# Altium footprint library LAN Transformer.PcbLib: 2 footprints
Each footprint in its own frame and in the unit in brackets; x right, y up, seen from the top. Pads: shape width x height; smd on the part's side, far side on the other; paste and mask are expansions set on the pad; w line width, h text height; cw(c..) or ccw(c..) is an arc to the next point about the centre after c.
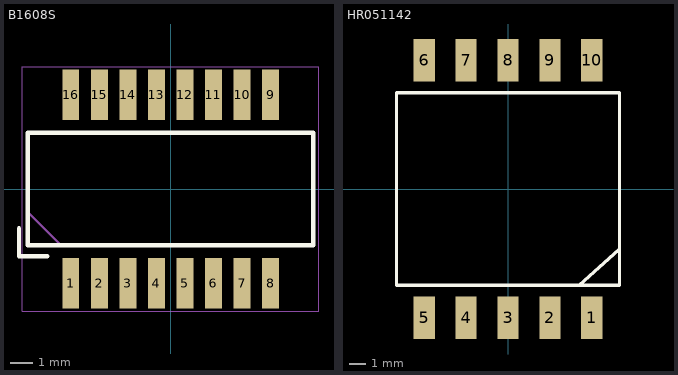
[diagram p0: the footprints below, top view; thin cyan lines are the x and y axes]

## B1608S [mm] "1.5kV 100M 1:1 350uH POE SMD-16P,12.7x7mm Pulse Transformers(LAN)"
pads (16):
  rect 0.75x2.25 smd: 1(-4.445,-4.2) 2(-3.175,-4.2) 3(-1.905,-4.2) 4(-0.635,-4.2) 5(0.635,-4.2) 6(1.905,-4.2) 7(3.175,-4.2) 8(4.445,-4.2) 9(4.445,4.2) 10(3.175,4.2) 11(1.905,4.2) 12(0.635,4.2) 13(-0.635,4.2) 14(-1.905,4.2) 15(-3.175,4.2) 16(-4.445,4.2)
Top Overlay:
  lines w0.2: -6.75,-1.75 -6.75,-3 -5.5,-3 ; -6.35,-2.5 -6.35,2.5 6.35,2.5 6.35,-2.5 -6.35,-2.5
Mechanical 13:
  lines w0.1: -6.35,-1.035 -4.879,-2.506 ; -6.35,-2.5 -6.35,2.5 6.35,2.5 6.35,-2.5 -6.35,-2.5
Mechanical 15:
  lines w0.05: -6.6,-5.45 -6.6,5.45 6.6,5.45 6.6,-5.45 -6.6,-5.45
3D body "H1102NL.stp": height 5.95, standoff 0, extent -6.35,-4.76 6.35,4.76

## HR051142 [mm] "SMD-10P,13.5x13.5mm Power Transformers ROHS"
pads (10):
  rect 1.27x2.54 smd: 1(5,-7.68) 2(2.5,-7.68) 3(0,-7.68) 4(-2.5,-7.68) 5(-5,-7.68) 6(-5,7.68) 7(-2.5,7.68) 8(0,7.68) 9(2.5,7.68) 10(5,7.68)
Top Overlay:
  lines w0.2: 4.25,-5.75 6.625,-3.613 ; -6.65,-5.75 6.65,-5.75 6.65,5.75 -6.65,5.75 -6.65,-5.75
Mechanical 13:
  lines w0.1: -6.65,-5.75 6.65,-5.75 6.65,5.75 -6.65,5.75 -6.65,-5.75
3D body "3D_PDC023-EP13A05S_20210923.stp": height 12.4, standoff 0.5, extent -6.4,-8.5 6.4,8.5